# Altium schematic symbol library PBL - Resistors.SCHLIB: 127 symbols (part 1 of 2)
Pins are listed as number, name and electrical type; pins without a type are passive.

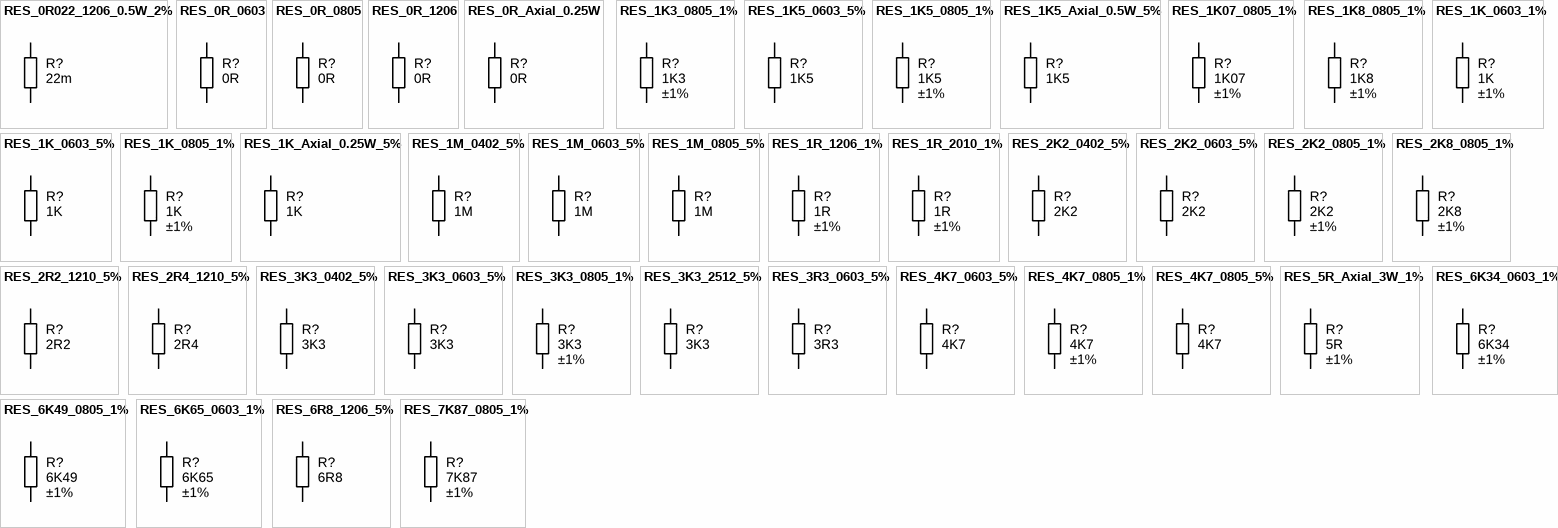
[diagram p0: symbols RES_0R022_1206_0.5W_2% to RES_7K87_0805_1%]

## RES_0R022_1206_0.5W_2%
designator R?, comment value 22m  (hidden comment: Thick Film)
Resistor SMD chip 22 milliohm 0.5W 2% 1206; Manufacturer 1: Susumu Co Ltd; Manufacturer Part Number 1: RL1632T-R022-G; Ratings: 1/2W; Tolerance: ±2%; Package / Case: 1206 (3216 metric); Supplier 1: Digi-Key; Supplier Part Number 1: RL16T.022GCT-ND
footprint RESC3216N (Chip Resistor, Body 3.2x1.6mm, 1206, IPC Medium Density)
pins: 1, 2

## RES_0R_0603
designator R?, comment value 0R  (hidden comment: Thick Film)
Resistor SMD chip 0.0 Ohm 0.1W 0603; Manufacturer 1: Vishay/Dale; Manufacturer Part Number 1: CRCW06030000Z0EA; Tolerance: ±5%; Ratings: 1/10W; Package / Case: 0603 (1608metric); Supplier 1: Digi-Key; Supplier Part Number 1: 541-0.0GCT-ND
footprint RESC1608N_ZERO (Chip Resistor, Body 1.6x0.8mm, 0603, IPC Medium Density)
pins: 1, 2

## RES_0R_0805
designator R?, comment value 0R  (hidden comment: Thick Film)
Resistor SMD chip 0.0 Ohm 0.125W 0805; Manufacturer 1: Rohm Semiconductor; Manufacturer Part Number 1: MCR10EZPJ000; Tolerance: ±5%; Ratings: 1/8W; Package / Case: 0805 (2012 metric)
footprint RESC2012N_ZERO (Chip Resistor, Body 2.0x1.2mm, 0805, IPC Medium Density)
pins: 1, 2

## RES_0R_1206
designator R?, comment value 0R  (hidden comment: Thick Film)
Resistor SMD chip 0.0 Ohm 0.25W 1206; Manufacturer 1: Vishay/Dale; Manufacturer Part Number 1: CRCW12060000Z0EA; Tolerance: ±5%; Ratings: 1/4W; Package / Case: 1206 (3216 metric); Supplier 1: Digi-Key; Supplier Part Number 1: 541-0.0ECT-ND
footprint RESC3216N_ZERO (Chip Resistor, Body 3.2x1.6mm, 1206, IPC Medium Density)
pins: 1, 2

## RES_0R_Axial_0.25W
designator R?, comment value 0R  (hidden comment: Carbon Film)
Resistor THD 0.0 Ohm 0.25W Jumper; Manufacturer 1: Yageo; Manufacturer Part Number 1: ZOR-25-R; Ratings: 1/4W; Tolerance: Jumper; Package / Case: 2.30x6.30mm DxL; Supplier 1: Digi-Key; Supplier Part Number 1: 0.0QTR-ND; Supplier 2: Mouser; Supplier Part Number 2: 603-ZOR-25-R-520R
footprint RESTH_0.0R_AXIAL-0.6 (Axial Resistor 0 Ohm, Thru-Hole; 2 Leads; 0.6 in Pin Spacing)
pins: 1, 2

## RES_1K3_0805_1%
designator R?, comment value 1K3  Tolerance: ±1%  (hidden comment: Thick Film)
Resistor SMD chip 1.3k Ohm 0.125W 1% 0805; Manufacturer 1: Vishay/Dale; Manufacturer Part Number 1: CRCW08051K30FKEA; Ratings: 1/8W; Package / Case: 0805 (2012 metric); Supplier 1: Digi-Key; Supplier Part Number 1: 541-1.30KCCT-ND
footprint RESC2012N (Chip Resistor, Body 2.0x1.2mm, 0805, IPC Medium Density)
pins: 1, 2

## RES_1K5_0603_5%
designator R?, comment value 1K5  (hidden comment: Thick Film)
Resistor SMD chip 1.5k Ohm 0.1W 5% 0603; Manufacturer 1: Yageo; Manufacturer Part Number 1: RC0603JR-071K5L; Ratings: 1/10 W; Package / Case: 0603 (1608 metric); Tolerance: ±5%; Material: thick film; Supplier 1: Digi-Key; Supplier Part Number 1: 311-1.5KGRCT-ND
footprint RESC1608N (Chip Resistor, Body 1.6x0.8mm, 0603, IPC Medium Density)
pins: 1, 2

## RES_1K5_0805_1%
designator R?, comment value 1K5  Tolerance: ±1%  (hidden comment: Thick Film)
Resistor SMD chip 1.5k Ohm 0.125W 1% 0805; Manufacturer 1: Vishay/Dale; Manufacturer Part Number 1: CRCW08051K50FKEA; Ratings: 1/8W; Package / Case: 0805 (2012 metric); Supplier 1: Digi-Key; Supplier Part Number 1: 541-1.50KCCT-ND
footprint RESC2012N (Chip Resistor, Body 2.0x1.2mm, IPC Medium Density)
pins: 1, 2

## RES_1K5_Axial_0.5W_5%
designator R?, comment value 1K5  (hidden comment: Carbon Film)
Resistor THD Axial 1.5k Ohm 0.5W 5% Carbon Film; Manufacturer 1: Yageo; Manufacturer Part Number 1: CFR-50JB-1K5; Ratings: 1/2W; Tolerance: ±5%; Package / Case: Axial; Supplier 1: Digi-Key; Supplier Part Number 1: 1.5KH-ND
footprint RESTH_AXIAL-0.4
pins: 1, 2

## RES_1K07_0805_1%
designator R?, comment value 1K07  Tolerance: ±1%  (hidden comment: Thick Film)
Resistor SMD chip 1.07K Ohm 0.125W 1% 0805; Manufacturer 1: Panasonic Electronic Components; Manufacturer Part Number 1: ERJ-6ENF1071V; Ratings: 1/8W; Package / Case: 0805 (2012 Metric); Supplier 1: Digi-Key; Size / Dimension: 0.079" L x 0.049" W (2.00mm x 1.25mm); Supplier Part Number 1: P1.07KCCT-ND
footprint RESC2012N (Chip Resistor, Body 2.0x1.2mm, 0805, IPC Medium Density)
pins: 1, 2

## RES_1K8_0805_1%
designator R?, comment value 1K8  Tolerance: ±1%  (hidden comment: Thick Film)
Resistor SMD chip 1.8k Ohm 0.125W 1% 0805; Manufacturer 1: Vishay/Dale; Manufacturer Part Number 1: CRCW08051K80FKEA; Ratings: 1/8W; Package / Case: 0805 (2012 metric); Supplier 1: Digi-Key; Supplier Part Number 1: 541-1.80KCCT-ND
footprint RESC2012N (Chip Resistor, Body 2.0x1.2mm, IPC Medium Density)
pins: 1, 2

## RES_1K_0603_1%
designator R?, comment value 1K  Tolerance: ±1%  (hidden comment: Thick Film)
Resistor SMD chip 1k Ohm 0.1W 1% 0603; Manufacturer 1: Yageo; Manufacturer Part Number 1: RC0603FR-071KL; Ratings: 1/10W; Package / Case: 0603 (1608 Metric); Supplier 1: Digi-Key; Supplier Part Number 1: 311-1.00KHRCT-ND
footprint RESC1608N (Chip Resistor, Body 1.6x0.8mm, 0603, IPC Medium Density)
pins: 1, 2

## RES_1K_0603_5%
designator R?, comment value 1K  (hidden comment: Thick Film)
Resistor SMD chip 1k Ohm 0.1W 5% 0603; Manufacturer 1: Yageo; Manufacturer Part Number 1: RC0603JR-071KL; Ratings: 1/10 W; Package / Case: 0603 (1608 metric); Tolerance: ±5%; Material: Thick Film; Supplier 1: Digi-Key; Supplier Part Number 1: 311-1.0KGRCT-ND
footprint RESC1608N (Chip Resistor, Body 1.6x0.8mm, 0603, IPC Medium Density)
pins: 1, 2

## RES_1K_0805_1%
designator R?, comment value 1K  Tolerance: ±1%  (hidden comment: Thick Film)
Resistor SMD chip 1k Ohm 0.125W 1% 0805; Manufacturer 1: Vishay/Dale; Manufacturer Part Number 1: CRCW08051K00FKEA; Ratings: 1/8W; Supplier 1: Digi-Key; Supplier Part Number 1: 541-1.00KCCT-ND; Package / Case: 0805 (2012 metric)
footprint RESC2012N (Chip Resistor, Body 2.0x1.2mm, 0805, IPC Medium Density)
pins: 1, 2

## RES_1K_Axial_0.25W_5%
designator R?, comment value 1K  (hidden comment: Carbon Film)
Resistor THD Axial 1k Ohm 0.25W 5% Carbon Film; Manufacturer 1: Yageo; Manufacturer Part Number 1: CFR-25JB-1K0; Ratings: 1/4W; Tolerance: ±5%; Package / Case: Axial; Supplier 1: Digi-Key; Supplier Part Number 1: 1.0KQBK-ND
footprint RESTH_AXIAL-0.4
pins: 1, 2

## RES_1M_0402_5%
designator R?, comment value 1M  (hidden comment: Thick Film)
Resistor SMD chip 1M Ohm 0.063W 5% 0402; Manufacturer 1: Vishay Dale; Manufacturer Part Number 1: CRCW04021M00JNED; Ratings: 1/16 W; Power Rating: 0.063W, 1/16W; Package / Case: 0402 (1005 Metric); Tolerance: ±5%; Material: Thick Film; Manufacturer 2: Yageo; Manufacturer Part Number 2: RC0402JR-071ML; Supplier 1: Digi-Key; Supplier Part Number 1: 541-1.0MJCT-ND; ComponentLink1URL: http://www.vishay.com/doc?20035; ComponentLink1Description: http://www.vishay.com/doc?20035; Supplier 2: Digi-Key; Supplier Part Number 2: 311-1.0MJRCT-ND; ComponentLink2URL: http://www.yageo.com/documents/recent/PYu-RC0402_51_RoHS_L_6.pdf; ComponentLink2Description: http://www.yageo.com/documents/recent/PYu-RC0402_51_RoHS_L_6.pdf
footprint RESC1005N (Chip Resistor, Body 1.0x0.5mm, EIA 0402, IPC Medium Density)
pins: 1, 2

## RES_1M_0603_5%
designator R?, comment value 1M  (hidden comment: Thick Film)
Resistor SMD chip 1M Ohm 0.1W 5% 0603; Manufacturer 1: Royal Ohm; Manufacturer Part Number 1: 0603WAJ0105; Ratings: 1/10 W; Package / Case: 0603 (1608 metric); Tolerance: ±5%; Material: Thick Film
footprint RESC1608N (Chip Resistor, Body 1.6x0.8mm, 0603, IPC Medium Density)
pins: 1, 2

## RES_1M_0805_5%
designator R?, comment value 1M  (hidden comment: Thick Film)
Resistor SMD chip 1M Ohm 0.125W 5% 0805; Manufacturer 1: Vishay/Dale; Manufacturer Part Number 1: CRCW08051M00JNEA; Ratings: 1/8W; Tolerance: ±5%; Package / Case: 0805 (2012 metric); Supplier 1: Digi-Key; Supplier Part Number 1: 541-1.0MACT-ND
footprint RESC2012N (Chip Resistor, Body 2.0x1.2mm, 0805, IPC Medium Density)
pins: 1, 2

## RES_1R_1206_1%
designator R?, comment value 1R  Tolerance: ±1%  (hidden comment: Thick Film)
Resistor SMD chip 1 Ohm 250mW 1% 1206; Manufacturer 1: KOA Speer; Manufacturer Part Number 1: RK73H2BTTD1R00F; Ratings: 1/4W; 200V; Parameter Name: 100 PPM / C; Package / Case: 1206 (3216 metric); Material: Thick Film; Supplier 1: Mouser; Supplier Part Number 1: 660-RK73H2BTTD1R00F
footprint RESC3216N (Chip Resistor, Body 3.2x1.6mm, 1206, IPC Medium Density)
pins: 1, 2

## RES_1R_2010_1%
designator R?, comment value 1R  Tolerance: ±1%  (hidden comment: Thick Film)
Resistor SMD chip 1 Ohm 1W 1% 2010; Manufacturer 1: Vishay/Dale; Manufacturer Part Number 1: CRCW20101R00FKEFHP; Ratings: 1W; 400V; Package / Case: 2010 (5025 metric); Material: Thick Film; Supplier 1: Digi-Key; Supplier Part Number 1: 541-1.00PCT-ND
footprint RESC5025N (Chip Resistor, Body 5.0x2.5mm, 2010, IPC Medium Density)
pins: 1, 2

## RES_2K2_0402_5%
designator R?, comment value 2K2  (hidden comment: Thick Film)
Resistor SMD chip 2.2k Ohm 0.063W 5% 0402; Manufacturer 1: Vishay Dale; Manufacturer Part Number 1: CRCW04022K20JNED; Ratings: 1/16 W; Package / Case: 0402 (1005 metric); Tolerance: ±5%; Material: Thick Film; Manufacturer 2: Yageo; Manufacturer Part Number 2: RC0402JR-072K2L; Supplier 1: Digi-Key; Supplier Part Number 1: 541-2.2KJCT-ND; ComponentLink1URL: http://www.vishay.com/doc?20035; ComponentLink1Description: http://www.vishay.com/doc?20035; Supplier 2: Digi-Key; Supplier Part Number 2: 311-2.2KJRCT-ND; ComponentLink2URL: http://www.yageo.com/documents/recent/PYu-RC0402_51_RoHS_L_6.pdf; ComponentLink2Description: http://www.yageo.com/documents/recent/PYu-RC0402_51_RoHS_L_6.pdf
footprint RESC1005N (Chip Resistor, Body 1.0x0.5mm, EIA 0402, IPC Medium Density)
pins: 1, 2

## RES_2K2_0603_5%
designator R?, comment value 2K2  (hidden comment: Thick Film)
Resistor SMD chip 2.2k Ohm 0.1W 5% 0603; Manufacturer 1: Yageo; Manufacturer Part Number 1: RC0603JR-072K2L; Ratings: 1/10 W; Package / Case: 0603 (1608 metric); Tolerance: ±5%; Material: Thick Film; Supplier 1: Digi-Key; Supplier Part Number 1: 311-2.2KGRCT-ND
footprint RESC1608N (Chip Resistor, Body 1.6x0.8mm, IPC Medium Density)
pins: 1, 2

## RES_2K2_0805_1%
designator R?, comment value 2K2  Tolerance: ±1%  (hidden comment: Thick Film)
Resistor SMD chip 2.2k Ohm 0.125W 1% 0805; Manufacturer 1: Vishay/Dale; Manufacturer Part Number 1: CRCW08052K20FKEA; Ratings: 1/8W; Supplier 1: Digi-Key; Supplier Part Number 1: 541-2.20KCCT-ND; Package / Case: 0805 (2012 metric)
footprint RESC2012N (Chip Resistor, Body 2.0x1.2mm, IPC Medium Density)
pins: 1, 2

## RES_2K8_0805_1%
designator R?, comment value 2K8  Tolerance: ±1%  (hidden comment: Thick Film)
Resistor SMD chip 2.8k Ohm 0.125W 1% 0805; Manufacturer 1: Vishay/Dale; Manufacturer Part Number 1: CRCW08052K80FKEA; Ratings: 1/8W; Package / Case: 0805 (2012 metric); Supplier 1: Digi-Key; Supplier Part Number 1: 541-2.80KCCT-ND
footprint RESC2012N (Chip Resistor, Body 2.0x1.2mm, IPC Medium Density)
pins: 1, 2

## RES_2R2_1210_5%
designator R?, comment value 2R2  (hidden comment: Thick Film)
Resistor SMD chip 2.2 Ohm 0.5W 5% 1210; Manufacturer 1: Panasonic - ECG; Manufacturer Part Number 1: ERJ-14YJ2R2U; Ratings: 1/2 W; Package / Case: 1210 (3225 metric); Tolerance: ±5%; Supplier 1: Digi-Key; Supplier Part Number 1: P2.2VCT-ND; ComponentLink1URL: http://industrial.panasonic.com/www-cgi/jvcr13pz.cgi?E+PZ+3+AOA0001+ERJ14YJ2R2U+7+WW; ComponentLink1Description: http://industrial.panasonic.com/www-cgi/jvcr13pz.cgi?E+PZ+3+AOA0001+ERJ14YJ2R2U+7+WW
footprint RESC3225N (Chip Resistor, Body 3.2x2.5mm, 1210, IPC Medium Density)
pins: 1, 2

## RES_2R4_1210_5%
designator R?, comment value 2R4  (hidden comment: Thick Film)
Resistor SMD chip 2.4 Ohm 0.5W 5% 1210; Manufacturer 1: Panasonic - ECG; Manufacturer Part Number 1: ERJ-14YJ2R4U; Ratings: 1/2 W; Package / Case: 1210 (3225 metric); Tolerance: ±5%; ComponentLink1URL: http://industrial.panasonic.com/www-cgi/jvcr13pz.cgi?E+PZ+3+AOA0001+ERJ14YJ2R2U+7+WW; ComponentLink1Description: http://industrial.panasonic.com/www-cgi/jvcr13pz.cgi?E+PZ+3+AOA0001+ERJ14YJ2R2U+7+WW; Supplier 1: Digi-Key; Supplier Part Number 1: P2.4VCT-ND
footprint RESC3225N (Chip Resistor, Body 3.2x2.5mm, 1210, IPC Medium Density)
pins: 1, 2

## RES_3K3_0402_5%
designator R?, comment value 3K3  (hidden comment: Thick Film)
Resistor SMD chip 3.3k Ohm 0.063W 5% 0402; Manufacturer 1: Yageo; Manufacturer Part Number 1: RC0402JR-073K3L; Ratings: 1/16 W; Package / Case: 0402 (1005 metric); Tolerance: ±5%; Material: Thick Film; Supplier 1: Digi-Key; Supplier Part Number 1: 311-3.3KJRCT-ND; ComponentLink1URL: http://www.yageo.com/documents/recent/PYu-RC0402_51_RoHS_L_6.pdf; ComponentLink1Description: http://www.yageo.com/documents/recent/PYu-RC0402_51_RoHS_L_6.pdf
footprint RESC1005N (Chip Resistor, Body 1.0x0.5mm, EIA 0402, IPC Medium Density)
pins: 1, 2

## RES_3K3_0603_5%
designator R?, comment value 3K3  (hidden comment: Thick Film)
Resistor SMD chip 3.3k Ohm 0.1W 5% 0603; Manufacturer 1: Yageo; Manufacturer Part Number 1: RC0603JR-073K3L; Ratings: 1/10 W; Package / Case: 0603 (1608 metric); Tolerance: ±5%; Material: thick film; Supplier 1: Digi-Key; Supplier Part Number 1: 311-3.3KGRTR-ND
footprint RESC1608N (Chip Resistor, Body 1.6x0.8mm, IPC Medium Density)
pins: 1, 2

## RES_3K3_0805_1%
designator R?, comment value 3K3  Tolerance: ±1%  (hidden comment: Thick Film)
Resistor SMD chip 3.3k Ohm 0.125W 1% 0805; Manufacturer 1: Vishay/Dale; Manufacturer Part Number 1: CRCW08053K30FKEA; Ratings: 1/8W; Package / Case: 0805 (2012 metric); Supplier 1: Digi-Key; Supplier Part Number 1: 541-3.30KCCT-ND
footprint RESC2012N (Chip Resistor, Body 2.0x1.2mm, IPC Medium Density)
pins: 1, 2

## RES_3K3_2512_5%
designator R?, comment value 3K3  (hidden comment: Thick Film)
Resistor SMD chip 3.3k Ohm 1W 5% 2512; Manufacturer 1: Vishay/Dale; Manufacturer Part Number 1: CRCW25123K30JNEG; Tolerance: ±5%; Ratings: 1W; Material: Thick Film; Supplier 1: Digi-Key; Supplier Part Number 1: 541-3.3KXCT-ND; Package / Case: 2512 (6332 metric)
footprint RESC6332N (Chip Resistor, Body 6.3x3.2mm, 2512, IPC Medium Density)
pins: 1, 2

## RES_3R3_0603_5%
designator R?, comment value 3R3  (hidden comment: Thick Film)
Resistor SMD chip 3.3 Ohm 0.1W 5% 0603; Manufacturer 1: Yageo; Manufacturer Part Number 1: RC0603JR-073R3L; Ratings: 1/10 W; Package / Case: 0603 (1608 metric); Tolerance: ±5%; ComponentLink1URL: http://www.yageo.com/documents/recent/PYu-RC0603_51_RoHS_L_4.pdf; ComponentLink1Description: http://www.yageo.com/documents/recent/PYu-RC0603_51_RoHS_L_4.pdf; Supplier 1: Digi-Key; Supplier Part Number 1: 311-3.3GRCT-ND
footprint RESC1608N (Chip Resistor, Body 1.6x0.8mm, 0603, IPC Medium Density)
pins: 1, 2

## RES_4K7_0603_5%
designator R?, comment value 4K7  (hidden comment: Thick Film)
Resistor SMD chip 4.7k Ohm 0.1W 5% 0603; Manufacturer 1: Vishay/Dale; Manufacturer Part Number 1: CRCW06034K70JNEA; Ratings: 1/10 W; Package / Case: 0603 (1608 metric); Tolerance: ±5%; Material: Thick Film; Supplier 1: Digi-Key; Supplier Part Number 1: 541-4.7KGCT-ND
footprint RESC1608N (Chip Resistor, Body 1.6x0.8mm, IPC Medium Density)
pins: 1, 2

## RES_4K7_0805_1%
designator R?, comment value 4K7  Tolerance: ±1%  (hidden comment: Thick Film)
Resistor SMD chip 4.7k Ohm 0.125W 1% 0805; Manufacturer 1: Vishay/Dale; Manufacturer Part Number 1: CRCW08054K70FKEA; Ratings: 1/8W; Package / Case: 0805 (2012 metric); Supplier 1: Digi-Key; Supplier Part Number 1: 541-4.70KCCT-ND
footprint RESC2012N (Chip Resistor, Body 2.0x1.2mm, IPC Medium Density)
pins: 1, 2

## RES_4K7_0805_5%
designator R?, comment value 4K7  (hidden comment: Thick Film)
Resistor SMD chip 4.7k Ohm 0.125W 5% 0805; Manufacturer 1: Yageo; Manufacturer Part Number 1: RC0805JR-074K7L; Ratings: 1/8 W; Package / Case: 0805 (2012 metric); Tolerance: ±5%; Material: Thick Film; Supplier 1: Digi-Key; Supplier Part Number 1: 311-4.7KARCT-ND
footprint RESC2012N (Chip Resistor, Body 2.0x1.2mm, IPC Medium Density)
pins: 1, 2

## RES_5R_Axial_3W_1%
designator R?, comment value 5R  Tolerance: ±1%  (hidden comment: Wirewound)
Resistor THD 5 Ohm 3W 1% Wirewound; Manufacturer 1: Vishay/Dale; Manufacturer Part Number 1: RS02B5R000FE70; Package / Case: 4.75x15.80mm DxL; Ratings: 3W; Material: Wirewound; Size / Dimension: 0.187" Dia x 0.622" L (4.75mm x 15.80mm); ComponentLink1URL: http://www.vishay.com/doc?30204; ComponentLink1Description: http://www.vishay.com/doc?30204; Supplier 1: Digi-Key; Supplier Part Number 1: RSB-5.0RCT-ND
footprint RESTH_AXIAL_RS02B (Axial Resistor Thru-Hole; 2 Leads)
pins: 1, 2

## RES_6K34_0603_1%
designator R?, comment value 6K34  Tolerance: ±1%  (hidden comment: Thick Film)
Resistor SMD chip 6.34k Ohm 0.1W 1% 0603; Manufacturer 1: Yageo; Manufacturer Part Number 1: RC0603FR-076K34L; Ratings: 1/10W; Package / Case: 0603 (1608 Metric); Supplier 1: Digi-Key; Supplier Part Number 1: 311-6.34KHRCT-ND
footprint RESC1608N (Chip Resistor, Body 1.6x0.8mm, 0603, IPC Medium Density)
pins: 1, 2

## RES_6K49_0805_1%
designator R?, comment value 6K49  Tolerance: ±1%  (hidden comment: Thick Film)
Resistor SMD chip 6.49k Ohm 0.125W 1% 0805; Manufacturer: Vishay/Dale; Manufacturer Part Number: CRCW08056K49FKEA; Ratings: 1/8W; Package / Case: 0805 (2012 metric); Supplier 1: Digi-Key; Supplier Part Number 1: 541-6.49KCCT-ND
footprint RESC2012N (Chip Resistor, Body 2.0x1.2mm, 0805, IPC Medium Density)
pins: 1, 2

## RES_6K65_0603_1%
designator R?, comment value 6K65  Tolerance: ±1%  (hidden comment: Thick Film)
Resistor SMD chip 6.65k Ohm 0.1W 1% 0603; Manufacturer 1: Yageo; Manufacturer Part Number 1: RC0603FR-076K65L; Ratings: 1/10W; Package / Case: 0603 (1608 Metric); Supplier 1: Digi-Key; Supplier Part Number 1: 311-6.65KHRCT-ND; ComponentLink1URL: http://www.yageo.com/documents/recent/PYu-RC0603_51_RoHS_L_4.pdf; ComponentLink1Description: http://www.yageo.com/documents/recent/PYu-RC0603_51_RoHS_L_4.pdf
footprint RESC1608N (Chip Resistor, Body 1.6x0.8mm, 0603, IPC Medium Density)
pins: 1, 2

## RES_6R8_1206_5%
designator R?, comment value 6R8  (hidden comment: Thick Film)
Resistor SMD chip 6.8 Ohm 0.25W 5% 1206; Manufacturer 1: Vishay/Dale; Manufacturer Part Number 1: CRCW12066R80JNEA; Ratings: 1/4W; Tolerance: ±5%; Package / Case: 1206 (3216 metric); Supplier 1: Digi-Key; Supplier Part Number 1: 541-6.8ECT-ND
footprint RESC3216N (Chip Resistor, Body 3.2x1.6mm, IPC Medium Density)
pins: 1, 2

## RES_7K87_0805_1%
designator R?, comment value 7K87  Tolerance: ±1%  (hidden comment: Thick Film)
Resistor SMD chip 7.87k Ohm 0.125W 1% 0805; Manufacturer 1: Vishay/Dale; Manufacturer Part Number 1: CRCW08057K87FKEA; Ratings: 1/8W; Package / Case: 0805 (2012 metric); Supplier 1: Digi-Key; Supplier Part Number 1: 541-7.87KCCT-ND
footprint RESC2012N (Chip Resistor, Body 2.0x1.2mm, IPC Medium Density)
pins: 1, 2

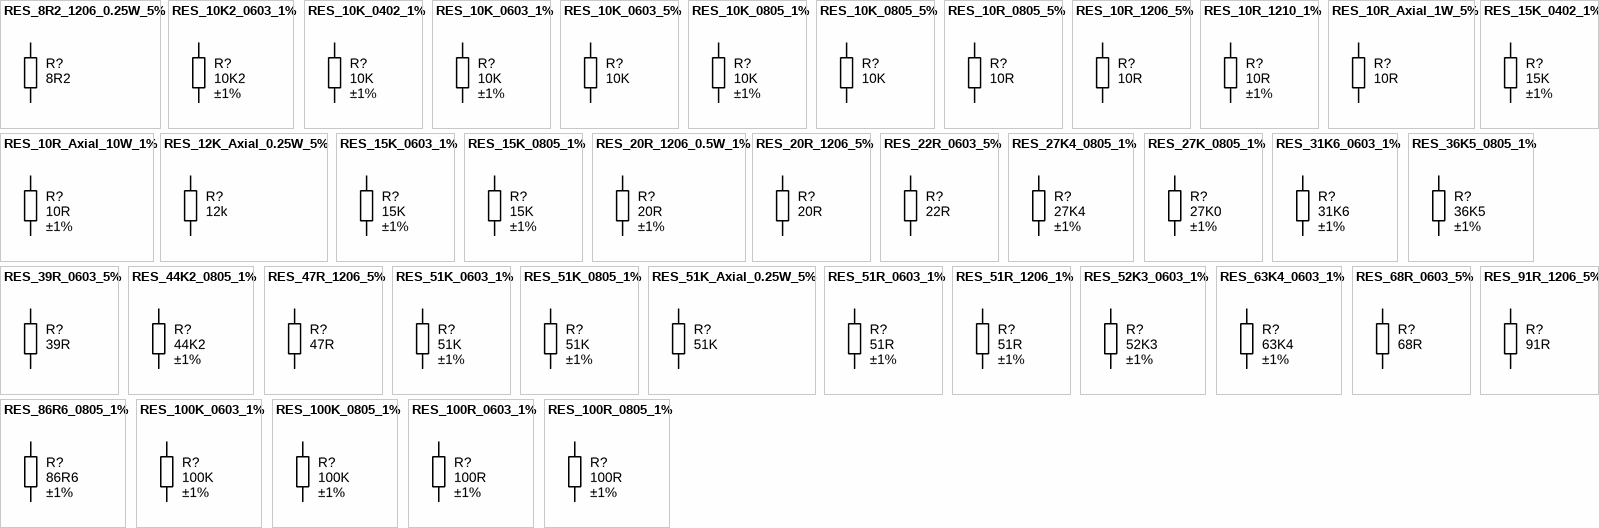
[diagram p1: symbols RES_8R2_1206_0.25W_5% to RES_100R_0805_1%]

## RES_8R2_1206_0.25W_5%
designator R?, comment value 8R2  (hidden comment: Thick Film)
Resistor SMD chip 8.2 Ohm 0.25W 5% 1206; Manufacturer 1: Royal Ohm; Manufacturer Part Number 1: 1206WAJ08R2; Ratings: 1/4 W; Package / Case: 1206 (3216 metric); Tolerance: ±5%
footprint RESC3216N (Chip Resistor, Body 3.2x1.6mm, IPC Medium Density)
pins: 1, 2

## RES_10K2_0603_1%
designator R?, comment value 10K2  Tolerance: ±1%  (hidden comment: Thick Film)
Resistor SMD chip 10.2K Ohm 0.1W 1% 0603; Manufacturer 1: Yageo; Manufacturer Part Number 1: RC0603FR-0710K2L; Ratings: 1/10W; Parameter Name: ±100ppm/°C; Package / Case: 0603 (1608 Metric); ComponentLink1URL: http://www.yageo.com/documents/recent/PYu-RC0603_51_RoHS_L_4.pdf; ComponentLink1Description: http://www.yageo.com/documents/recent/PYu-RC0603_51_RoHS_L_4.pdf; Supplier 1: Digi-Key; Supplier Part Number 1: 311-10.2KHRCT-ND
footprint RESC1608N (Chip Resistor, Body 1.6x0.8mm, 0603, IPC Medium Density)
pins: 1, 2

## RES_10K_0402_1%
designator R?, comment value 10K  Tolerance: ±1%  (hidden comment: Thick Film)
Resistor SMD chip 10k Ohm 0.063W 1% 0402; Manufacturer 1: Vishay Dale; Manufacturer Part Number 1: CRCW040210K0FKED; Ratings: 1/16 W; Package / Case: 0402 (1005 Metric); Manufacturer 2: Yageo; Manufacturer Part Number 2: RC0402FR-0710KL; Supplier 1: Digi-Key; Supplier Part Number 1: 541-10.0KLCT-ND; ComponentLink1URL: http://www.vishay.com/doc?20035; ComponentLink1Description: http://www.vishay.com/doc?20035; Supplier 2: Digi-Key; Supplier Part Number 2: 311-10.0KLRCT-ND; ComponentLink2URL: http://www.yageo.com/documents/recent/PYu-RC0402_51_RoHS_L_6.pdf; ComponentLink2Description: http://www.yageo.com/documents/recent/PYu-RC0402_51_RoHS_L_6.pdf
footprint RESC1005N (Chip Resistor, Body 1.0x0.5mm, EIA 0402, IPC Medium Density)
pins: 1, 2

## RES_10K_0603_1%
designator R?, comment value 10K  Tolerance: ±1%  (hidden comment: Thick Film)
Resistor SMD chip 10k Ohm 0.1W 1% 0603; Manufacturer 1: Yageo; Manufacturer Part Number 1: RC0603FR-0710KL; Ratings: 1/10W; Package / Case: 0603 (1608 Metric); Supplier 1: Digi-Key; Supplier Part Number 1: 311-10.0KHRCT-ND
footprint RESC1608N (Chip Resistor, Body 1.6x0.8mm, 0603, IPC Medium Density)
pins: 1, 2

## RES_10K_0603_5%
designator R?, comment value 10K  (hidden comment: Thick Film)
Resistor SMD chip 10k Ohm 0.1W 5% 0603; Manufacturer 1: Yageo; Manufacturer Part Number 1: RC0603JR-0710KL; Ratings: 1/10 W; Package / Case: 0603 (1608 metric); Tolerance: ±5%; Supplier 1: Digi-Key; Supplier Part Number 1: 311-10KGRCT-ND
footprint RESC1608N (Chip Resistor, Body 1.6x0.8mm, IPC Medium Density)
pins: 1, 2

## RES_10K_0805_1%
designator R?, comment value 10K  Tolerance: ±1%  (hidden comment: Thick Film)
Resistor SMD chip 10k Ohm 0.125W 1% 0805; Manufacturer 1: Vishay/Dale; Manufacturer Part Number 1: CRCW080510K0FKEA; Ratings: 1/8W; Package / Case: 0805 (2012 metric); Supplier 1: Digi-Key; Supplier Part Number 1: 541-10.0KCCT-ND; Material: Thick Film
footprint RESC2012N (Chip Resistor, Body 2.0x1.2mm, 0805, IPC Medium Density)
pins: 1, 2

## RES_10K_0805_5%
designator R?, comment value 10K  (hidden comment: Thick Film)
Resistor SMD chip 10k Ohm 0.125W 5% 0805; Manufacturer 1: Yageo; Manufacturer Part Number 1: RC0805JR-0710KL; Ratings: 1/8 W; Package / Case: 0805 (2012 metric); Tolerance: ±5%; Material: Thick Film; Supplier 1: Digi-Key; Supplier Part Number 1: 311-10KARCT-ND
footprint RESC2012N (Chip Resistor, Body 2.0x1.2mm, IPC Medium Density)
pins: 1, 2

## RES_10R_0805_5%
designator R?, comment value 10R  (hidden comment: Thick Film)
Resistor SMD chip 10 Ohm 0.125W 5% 0805; Manufacturer 1: Vishay/Dale; Manufacturer Part Number 1: CRCW080510R0JNEA; Ratings: 1/8W; Tolerance: ±5%; Package / Case: 0805 (2012 metric); Supplier 1: Digi-Key; Supplier Part Number 1: 541-10ATR-ND
footprint RESC2012N (Chip Resistor, Body 2.0x1.2mm, 0805, IPC Medium Density)
pins: 1, 2

## RES_10R_1206_5%
designator R?, comment value 10R  (hidden comment: Thick Film)
Resistor SMD chip 10 Ohm 0.25W 5% 1206; Manufacturer 1: Yageo; Manufacturer Part Number 1: RC1206JR-0710RL; Ratings: 1/4W; Tolerance: ±5%; Package / Case: 1206 (3216 metric); Supplier 1: Digi-Key; Supplier Part Number 1: 311-10ERCT-ND
footprint RESC3216N (Chip Resistor, Body 3.2x1.6mm, 1206, IPC Medium Density)
pins: 1, 2

## RES_10R_1210_1%
designator R?, comment value 10R  Tolerance: ±1%  (hidden comment: Thick Film)
Resistor SMD chip 10 Ohm 0.5W 1% 1210; Manufacturer 1: Panasonic - ECG; Manufacturer Part Number 1: ERJ-14NF10R0U; Ratings: 1/2W; Package / Case: 1210 (3225 Metric); Supplier 1: Digi-Key; Supplier Part Number 1: P10.0AACT-ND; ComponentLink1URL: http://industrial.panasonic.com/www-cgi/jvcr13pz.cgi?E+PZ+3+AOA0002+ERJ14NF10R0U+7+WW; ComponentLink1Description: http://industrial.panasonic.com/www-cgi/jvcr13pz.cgi?E+PZ+3+AOA0002+ERJ14NF10R0U+7+WW
footprint RESC3225N (Chip Resistor, Body 3.2x2.5mm, 1210, IPC Medium Density)
pins: 1, 2

## RES_10R_Axial_1W_5%
designator R?, comment value 10R  (hidden comment: Metal Film)
Resistor THD 10 Ohm 1W 5% Metal Film; Manufacturer 1: Vishay/BC Components; Manufacturer Part Number 1: PR01000101009JR500; Tolerance: ±5%; Package / Case: 2.5x8.0mm DxL; Ratings: 1W; Supplier 1: Digi-Key; Supplier Part Number 1: PPC10W-1CT-ND
footprint AXIAL-0.6 (Axial Device, Thru-Hole; 2 Leads; 0.6 in Pin Spacing)
pins: 1, 2

## RES_10R_Axial_10W_1%
designator R?, comment value 10R  Tolerance: ±1%  (hidden comment: Wirewound)
Resistor THD 10 Ohm 10W 1% Wirewound; Manufacturer 1: Vishay/Dale; Manufacturer Part Number 1: RS01010R00FE73; Package / Case: 9.53x47.50mm DxL; Ratings: 10W; Supplier 1: Digi-Key; Supplier Part Number 1: RSD-10RCT-ND; Material: Wirewound; Size / Dimension: 0.375" Dia x 1.870" L (9.53mm x 47.50mm); ComponentLink1URL: http://www.vishay.com/doc?30204; ComponentLink1Description: http://www.vishay.com/doc?30204
footprint RESTH_AXIAL_RS010 (Axial Resistor Thru-Hole; 2 Leads)
pins: 1, 2

## RES_12K_Axial_0.25W_5%
designator R?, comment value 12k  (hidden comment: Carbon Film)
Resistor THD Axial 12k Ohm 0.25W 5% Carbon Film; Manufacturer 1: Yageo; Manufacturer Part Number 1: CFR-25JB-12K; Ratings: 1/4W; Tolerance: ±5%; Package / Case: Axial; Supplier 1: Digi-Key; Supplier Part Number 1: 12KQBK-ND
footprint RESTH_AXIAL-0.4
pins: 1, 2

## RES_15K_0402_1%
designator R?, comment value 15K  Tolerance: ±1%  (hidden comment: Thick Film)
Resistor SMD chip 15k Ohm 0.063W 1% 0402; Manufacturer 1: Vishay Dale; Manufacturer Part Number 1: CRCW040215K0FKED; Ratings: 1/16 W; Package / Case: 0402 (1005 Metric); Manufacturer 2: Yageo; Manufacturer Part Number 2: RC0402FR-0715KL; Supplier 1: Digi-Key; Supplier Part Number 1: 541-15.0KLCT-ND; ComponentLink1URL: http://www.vishay.com/doc?20035; ComponentLink1Description: http://www.vishay.com/doc?20035; Supplier 2: Digi-Key; Supplier Part Number 2: 311-15.0KLRCT-ND; ComponentLink2URL: http://www.yageo.com/documents/recent/PYu-RC0402_51_RoHS_L_6.pdf; ComponentLink2Description: http://www.yageo.com/documents/recent/PYu-RC0402_51_RoHS_L_6.pdf
footprint RESC1005N (Chip Resistor, Body 1.0x0.5mm, EIA 0402, IPC Medium Density)
pins: 1, 2

## RES_15K_0603_1%
designator R?, comment value 15K  Tolerance: ±1%  (hidden comment: Thick Film)
Resistor SMD chip 15k Ohm 0.1W 1% 0603; Manufacturer 1: Vishay/Dale; Manufacturer Part Number 1: CRCW060315K0FKEA; Ratings: 1/10 W; Package / Case: 0603 (1608 metric); Material: Thick Film; Supplier 1: Digi-Key; Supplier Part Number 1: 541-15.0KHCT-ND
footprint RESC1608N (Chip Resistor, Body 1.6x0.8mm, 0603, IPC Medium Density)
pins: 1, 2

## RES_15K_0805_1%
designator R?, comment value 15K  Tolerance: ±1%  (hidden comment: Thick Film)
Resistor SMD chip 15k Ohm 0.125W 1% 0805; Manufacturer 1: Vishay/Dale; Manufacturer Part Number 1: CRCW080515K0FKEA; Ratings: 1/8W; Package / Case: 0805 (2012 metric); Supplier 1: Digi-Key; Supplier Part Number 1: 541-15.0KCCT-ND
footprint RESC2012N (Chip Resistor, Body 2.0x1.2mm, IPC Medium Density)
pins: 1, 2

## RES_20R_1206_0.5W_1%
designator R?, comment value 20R  Tolerance: ±1%  (hidden comment: Thick Film)
Resistor SMD chip 20 Ohm 0.5W 1% 1206; Manufacturer 1: Stackpole Electronics Inc; Manufacturer Part Number 1: RNCP1206FTD20R0; Ratings: 1/2W; Package / Case: 1206 (3216 Metric); Supplier 1: Digi-Key; Supplier Part Number 1: RNCP1206FTD20R0CT-ND; Features: Anti-Sulfur
footprint RESC3216N (Chip Resistor, Body 3.2x1.6mm, 1206, IPC Medium Density)
pins: 1, 2

## RES_20R_1206_5%
designator R?, comment value 20R  (hidden comment: Thick Film)
Resistor SMD chip 20 Ohm 0.25W 5% 1206; Manufacturer 1: Yageo; Manufacturer Part Number 1: RC1206JR-0720RL; Ratings: 1/4W; Package / Case: 1206 (3216 metric); Tolerance: ±5%; Supplier 1: Digi-Key; Supplier Part Number 1: 311-20ERCT-ND
footprint RESC3216N (Chip Resistor, Body 3.2x1.6mm, 1206, IPC Medium Density)
pins: 1, 2

## RES_22R_0603_5%
designator R?, comment value 22R  (hidden comment: Thick Film)
Resistor SMD chip 22 Ohm 0.1W 5% 0603; Manufacturer 1: Yageo; Manufacturer Part Number 1: RC0603JR-0722RL; Ratings: 1/10W; Tolerance: ±5%; Package / Case: 0603 (1608 metric); Case: 0603 (1608 metric); Supplier 1: Digi-Key; Supplier Part Number 1: 311-22GRCT-ND
footprint RESC1608N (Chip Resistor, Body 1.6x0.8mm, 0603, IPC Medium Density)
pins: 1, 2

## RES_27K4_0805_1%
designator R?, comment value 27K4  Tolerance: ±1%  (hidden comment: Thick Film)
Resistor SMD chip 27.4k Ohm 0.125W 1% 0805; Manufacturer 1: Vishay/Dale; Manufacturer Part Number 1: CRCW080527K4FKEA; Ratings: 1/8W; Package / Case: 0805 (2012 metric); Supplier 1: Digi-Key; Supplier Part Number 1: 541-27.4KCCT-ND
footprint RESC2012N (Chip Resistor, Body 2.0x1.2mm, 0805, IPC Medium Density)
pins: 1, 2

## RES_27K_0805_1%
designator R?, comment value 27K0  Tolerance: ±1%  (hidden comment: Thick Film)
Resistor SMD chip 27.0k Ohm 0.125W 1% 0805; Manufacturer 1: Vishay/Dale; Manufacturer Part Number 1: CRCW080527K0FKEA; Ratings: 1/8W; Package / Case: 0805 (2012 metric); Supplier 1: Digi-Key; Supplier Part Number 1: 541-27.0KCCT-ND
footprint RESC2012N (Chip Resistor, Body 2.0x1.2mm, IPC Medium Density)
pins: 1, 2

## RES_31K6_0603_1%
designator R?, comment value 31K6  Tolerance: ±1%  (hidden comment: Thick Film)
Resistor SMD chip 31.6k Ohm 0.1W 1% 0603; Manufacturer 1: Yageo; Manufacturer Part Number 1: RC0603FR-0731K6L; Ratings: 1/10W; Package / Case: 0603 (1608 Metric); Supplier 1: Digi-Key; Supplier Part Number 1: 311-31.6KHRCT-ND
footprint RESC1608N (Chip Resistor, Body 1.6x0.8mm, 0603, IPC Medium Density)
pins: 1, 2

## RES_36K5_0805_1%
designator R?, comment value 36K5  Tolerance: ±1%  (hidden comment: Thick Film)
Resistor SMD chip 36.5k Ohm 0.125W 1% 0805; Manufacturer 1: Vishay/Dale; Manufacturer Part Number 1: CRCW080536K5FKEA; Ratings: 1/8W; Package / Case: 0805 (2012 metric); Supplier 1: Digi-Key; Supplier Part Number 1: 541-36.5KCCT-ND
footprint RESC2012N (Chip Resistor, Body 2.0x1.2mm, 0805, IPC Medium Density)
pins: 1, 2

## RES_39R_0603_5%
designator R?, comment value 39R  (hidden comment: Thick Film)
Resistor SMD chip 39 Ohm 0.1W 5% 0603; Manufacturer 1: Vishay Dale; Manufacturer Part Number 1: CRCW060339R0JNEA; Ratings: 1/10 W; Package / Case: 0603 (1608 metric); Tolerance: ±5%; Manufacturer 2: Yageo; Manufacturer Part Number 2: RC0603JR-0739RL; Supplier 1: Digi-Key; Supplier Part Number 1: 541-39GCT-ND; ComponentLink1URL: http://www.vishay.com/doc?20035; ComponentLink1Description: http://www.vishay.com/doc?20035; Supplier 2: Digi-Key; Supplier Part Number 2: 311-39GRCT-ND; ComponentLink2URL: http://www.yageo.com/documents/recent/PYu-RC0603_51_RoHS_L_4.pdf; ComponentLink2Description: http://www.yageo.com/documents/recent/PYu-RC0603_51_RoHS_L_4.pdf
footprint RESC1608N (Chip Resistor, Body 1.6x0.8mm, IPC Medium Density)
pins: 1, 2

## RES_44K2_0805_1%
designator R?, comment value 44K2  Tolerance: ±1%  (hidden comment: Thick Film)
Resistor SMD chip 44.2k Ohm 0.125W 1% 0805; Manufacturer 1: Vishay/Dale; Manufacturer Part Number 1: CRCW080544K2FKEA; Ratings: 1/8W; Package / Case: 0805 (2012 metric); Supplier 1: Digi-Key; Supplier Part Number 1: 541-44.2KCCT-ND
footprint RESC2012N (Chip Resistor, Body 2.0x1.2mm, 0805, IPC Medium Density)
pins: 1, 2

## RES_47R_1206_5%
designator R?, comment value 47R  (hidden comment: Thick Film)
Resistor SMD chip 47 Ohm 0.25W 5% 1206; Manufacturer 1: Yageo; Manufacturer Part Number 1: RC1206JR-0747RL; Ratings: 1/4W; Voltage Rating: 200 Volts; Package / Case: 1206 (3216 metric); Tolerance: ±5%; Supplier 1: Mouser; Supplier Part Number 1: 603-RC1206JR-0747RL; ComponentLink1URL: http://www.yageo.com/documents/recent/PYu-RC1206_51_RoHS_L_4.pdf; ComponentLink1Description: http://www.yageo.com/documents/recent/PYu-RC1206_51_RoHS_L_4.pdf
footprint RESC3216N (Chip Resistor, Body 3.2x1.6mm, 1206, IPC Medium Density)
pins: 1, 2

## RES_51K_0603_1%
designator R?, comment value 51K  Tolerance: ±1%  (hidden comment: Thick Film)
Resistor SMD chip 51k Ohm 0.1W 1% 0603; Manufacturer 1: Yageo; Manufacturer Part Number 1: RC0603FR-0751KL; Ratings: 1/10W; Package / Case: 0603 (1608 Metric); Supplier 1: Digi-Key; Supplier Part Number 1: 311-51.0KHRCT-ND
footprint RESC1608N (Chip Resistor, Body 1.6x0.8mm, 0603, IPC Medium Density)
pins: 1, 2

## RES_51K_0805_1%
designator R?, comment value 51K  Tolerance: ±1%  (hidden comment: Thick Film)
Resistor SMD chip 51k Ohm 0.125W 1% 0805; Manufacturer 1: Yageo; Manufacturer Part Number 1: RC0805FR-0751KL; Ratings: 1/8W; Package / Case: 0805 (2012 Metric); Supplier 1: Digi-Key; Supplier Part Number 1: 311-51.0KCRCT-ND
footprint RESC2012N (Chip Resistor, Body 2.0x1.2mm, 0805, IPC Medium Density)
pins: 1, 2

## RES_51K_Axial_0.25W_5%
designator R?, comment value 51K  (hidden comment: Carbon Film)
Resistor THD Axial 51k Ohm 0.25W 5% Carbon Film; Manufacturer 1: Yageo; Manufacturer Part Number 1: CFR-25JB-51K; Ratings: 1/4W; Tolerance: ±5%; Package / Case: Axial; Supplier 1: Digi-Key; Supplier Part Number 1: 51KQBK-ND
footprint RESTH_AXIAL-0.4
pins: 1, 2

## RES_51R_0603_1%
designator R?, comment value 51R  Tolerance: ±1%  (hidden comment: Thick Film)
Resistor SMD chip 51 Ohm 0.1W 1% 0603; Manufacturer 1: Yageo; Manufacturer Part Number 1: RC0603FR-0751RL; Ratings: 1/10 W; Package / Case: 0603 (1608 metric); Material: Thick Film; Supplier 1: Digi-Key; Supplier Part Number 1: 311-51.0HRCT-ND
footprint RESC1608N (Chip Resistor, Body 1.6x0.8mm, IPC Medium Density)
pins: 1, 2

## RES_51R_1206_1%
designator R?, comment value 51R  Tolerance: ±1%  (hidden comment: Thick Film)
Resistor SMD chip 51 Ohm 0.25W 1% 1206; Manufacturer 1: Vishay/Dale; Manufacturer Part Number 1: CRCW120651R0JNEA; Ratings: 1/4W; Package / Case: 1206 (3216 metric); Supplier 1: Digi-Key; Supplier Part Number 1: 541-51ECT-ND
footprint RESC3216N (Chip Resistor, Body 3.2x1.6mm, 1206, IPC Medium Density)
pins: 1, 2

## RES_52K3_0603_1%
designator R?, comment value 52K3  Tolerance: ±1%  (hidden comment: Thick Film)
Resistor SMD chip 52.3K Ohm 0.1W 1% 0603; Manufacturer 1: Yageo; Manufacturer Part Number 1: RC0603FR-0752K3L; Ratings: 1/10W; Parameter Name: ±100ppm/°C; Package / Case: 0603 (1608 Metric); ComponentLink1URL: http://www.yageo.com/documents/recent/PYu-RC0603_51_RoHS_L_4.pdf; ComponentLink1Description: http://www.yageo.com/documents/recent/PYu-RC0603_51_RoHS_L_4.pdf; Supplier 1: Digi-Key; Supplier Part Number 1: 311-52.3KHRCT-ND
footprint RESC1608N (Chip Resistor, Body 1.6x0.8mm, 0603, IPC Medium Density)
pins: 1, 2

## RES_63K4_0603_1%
designator R?, comment value 63K4  Tolerance: ±1%  (hidden comment: Thick Film)
Resistor SMD chip 63.4K Ohm 0.1W 1% 0603; Manufacturer 1: Yageo; Manufacturer Part Number 1: RC0603FR-0763K4L; Ratings: 1/10W; Package / Case: 0603 (1608 Metric); Supplier 1: Digi-Key; Supplier Part Number 1: 311-63.4KHRCT-ND; ComponentLink1URL: http://www.yageo.com/documents/recent/PYu-RC0603_51_RoHS_L_4.pdf; ComponentLink1Description: http://www.yageo.com/documents/recent/PYu-RC0603_51_RoHS_L_4.pdf
footprint RESC1608N (Chip Resistor, Body 1.6x0.8mm, 0603, IPC Medium Density)
pins: 1, 2

## RES_68R_0603_5%
designator R?, comment value 68R  (hidden comment: Thick Film)
Resistor SMD chip 68 Ohm 0.1W 5% 0603; Manufacturer 1: Yageo; Manufacturer Part Number 1: RC0603JR-0768RL; Ratings: 1/10 W; Package / Case: 0603 (1608 metric); Tolerance: ±5%; Material: Thick Film; Supplier 1: Digi-Key; Supplier Part Number 1: 311-68GRCT-ND
footprint RESC1608N (Chip Resistor, Body 1.6x0.8mm, IPC Medium Density)
pins: 1, 2

## RES_86R6_0805_1%
designator R?, comment value 86R6  Tolerance: ±1%  (hidden comment: Thick Film)
Resistor SMD chip 86.6 Ohm 0.125W 1% 0805; Manufacturer: Vishay/Dale; Manufacturer Part Number: CRCW080586R6FKEA; Ratings: 1/8W; Package / Case: 0805 (2012 metric); Supplier 1: Digi-Key; Supplier Part Number 1: 541-86.6CCT-ND
footprint RESC2012N (Chip Resistor, Body 2.0x1.2mm, IPC Medium Density)
pins: 1, 2

## RES_91R_1206_5%
designator R?, comment value 91R  (hidden comment: Thin Film)
Resistor SMD chip 91 Ohm 0.25W 5% 1206; Manufacturer 1: Yageo; Manufacturer Part Number 1: RC1206JR-0791RL; Ratings: 1/4 W; Package / Case: 1206 (3216 Metric); Tolerance: ±5%; Material: Thin Film; Supplier 1: Digi-Key; Supplier Part Number 1: 311-91ERCT-ND; ComponentLink1URL: http://www.yageo.com/documents/recent/PYu-RC1206_51_RoHS_L_4.pdf; ComponentLink1Description: http://www.yageo.com/documents/recent/PYu-RC1206_51_RoHS_L_4.pdf
footprint RESC3216N (Chip Resistor, Body 3.2x1.6mm, 1206, IPC Medium Density)
pins: 1, 2

## RES_100K_0603_1%
designator R?, comment value 100K  Tolerance: ±1%  (hidden comment: Thick Film)
Resistor SMD chip 100k Ohm 0.1W 1% 0603; Manufacturer 1: Vishay/Dale; Manufacturer Part Number 1: CRCW0603100KFKEA; Ratings: 1/10W; Package / Case: 0603 (2012 metric); Supplier 1: Digi-Key; Supplier Part Number 1: 541-100KHCT-ND
footprint RESC1608N (Chip Resistor, Body 1.6x0.8mm, 0603, IPC Medium Density)
pins: 1, 2

## RES_100K_0805_1%
designator R?, comment value 100K  Tolerance: ±1%  (hidden comment: Thick Film)
Resistor SMD chip 100k Ohm 0.125W 1% 0805; Manufacturer 1: Vishay/Dale; Manufacturer Part Number 1: CRCW0805100KFKEA; Ratings: 1/8W; Package / Case: 0805 (2012 metric); Supplier 1: Digi-Key; Supplier Part Number 1: 541-100KCCT-ND
footprint RESC2012N (Chip Resistor, Body 2.0x1.2mm, IPC Medium Density)
pins: 1, 2

## RES_100R_0603_1%
designator R?, comment value 100R  Tolerance: ±1%  (hidden comment: Thick Film)
Resistor SMD chip 100 Ohm 0.1W 1% 0603; Manufacturer 1: Yageo; Manufacturer Part Number 1: RC0603FR-07100RL; Ratings: 1/10 W; Package / Case: 0603 (1608 Metric); Material: Thick Film; Supplier 1: Digi-Key; Supplier Part Number 1: 311-100HRCT-ND; Supplier 2: Digi-Key; Supplier Part Number 2: P100HTR-ND; Manufacturer 2: Panasonic - ECG; Manufacturer Part Number 2: ERJ-3EKF1000V; ComponentLink1URL: http://industrial.panasonic.com/www-cgi/jvcr13pz.cgi?E+PZ+3+AOA0002+ERJ3EKF1000V+7+WW; ComponentLink1Description: http://industrial.panasonic.com/www-cgi/jvcr13pz.cgi?E+PZ+3+AOA0002+ERJ3EKF1000V+7+WW
footprint RESC1608N (Chip Resistor, Body 1.6x0.8mm, 0603, IPC Medium Density)
pins: 1, 2

## RES_100R_0805_1%
designator R?, comment value 100R  Tolerance: ±1%  (hidden comment: Thick Film)
Resistor SMD chip 100 Ohm 0.125W 1% 0805; Manufacturer 1: Yageo; Manufacturer Part Number 1: RC0805FR-07100RL; Ratings: 1/8 W; Package / Case: 0805 (2012 Metric); Material: Thick Film; Supplier 1: Digi-Key; Supplier Part Number 1: 311-100CRCT-ND
footprint RESC2012N (Chip Resistor, Body 2.0x1.2mm, 0805, IPC Medium Density)
pins: 1, 2

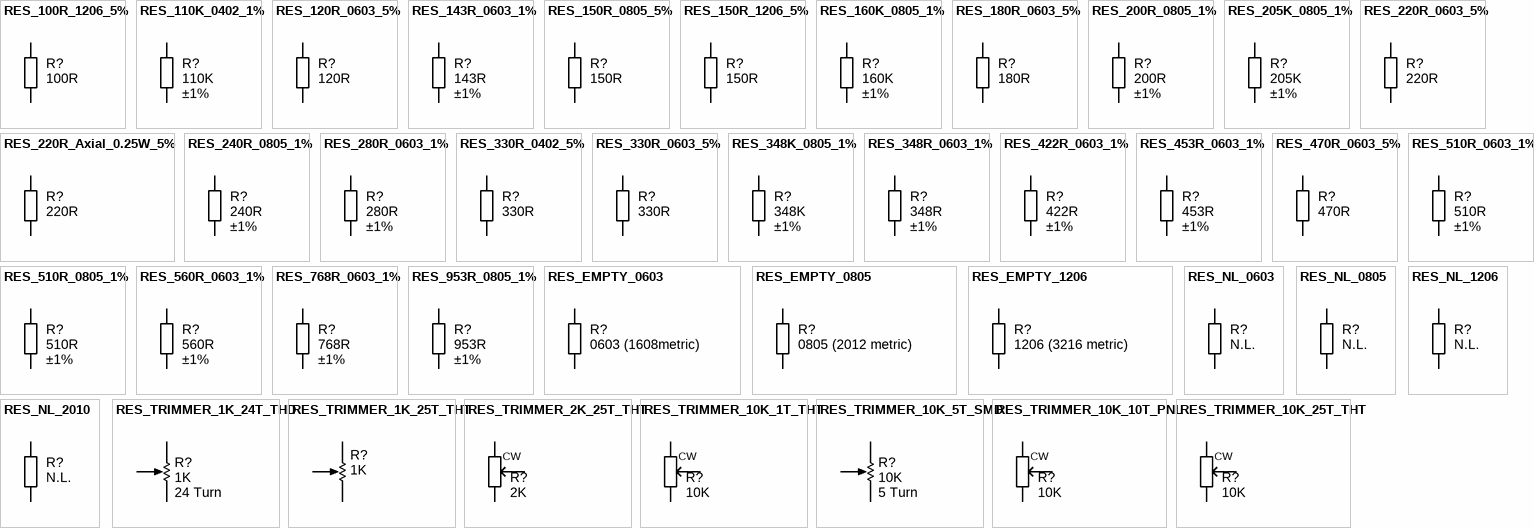
[diagram p2: symbols RES_100R_1206_5% to RES_TRIMMER_10K_25T_THT]

## RES_100R_1206_5%
designator R?, comment value 100R  (hidden comment: Thick Film)
Resistor SMD chip 100 Ohm 0.25W 5% 1206; Manufacturer 1: Vishay/Dale; Manufacturer Part Number 1: CRCW1206100RJNEA; Package / Case: 1206 (3216 metric); Ratings: 0.25 W; Tolerance: ±5%; Material: Thick Film; Supplier 1: Digi-Key; Supplier Part Number 1: 541-100ECT-ND
footprint RESC3216N (Chip Resistor, Body 3.2x1.6mm, 1206, IPC Medium Density)
pins: 1, 2

## RES_110K_0402_1%
designator R?, comment value 110K  Tolerance: ±1%  (hidden comment: Thick Film)
Resistor SMD chip 110k Ohm 0.063W 1% 0402; Manufacturer 1: Vishay Dale; Manufacturer Part Number 1: CRCW0402110KFKED; Ratings: 1/16 W; Package / Case: 0402 (1005 Metric); Manufacturer 2: Yageo; Manufacturer Part Number 2: RC0402FR-07110KL; Supplier 1: Digi-Key; Supplier Part Number 1: 541-110KLCT-ND; ComponentLink1URL: http://www.vishay.com/doc?20035; ComponentLink1Description: http://www.vishay.com/doc?20035; ComponentLink2URL: http://www.yageo.com/documents/recent/PYu-RC0402_51_RoHS_L_6.pdf; ComponentLink2Description: http://www.yageo.com/documents/recent/PYu-RC0402_51_RoHS_L_6.pdf; Supplier 2: Digi-Key; Supplier Part Number 2: 311-110KJRCT-ND
footprint RESC1005N (Chip Resistor, Body 1.0x0.5mm, EIA 0402, IPC Medium Density)
pins: 1, 2

## RES_120R_0603_5%
designator R?, comment value 120R  (hidden comment: Thick Film)
Resistor SMD chip 120 Ohm 0.1W 5% 0603; Manufacturer 1: Yageo; Manufacturer Part Number 1: RC0603JR-07120RL; Ratings: 1/10 W; Package / Case: 0603 (1608 metric); Tolerance: ±5%; Material: Thick Film; Supplier 1: Digi-Key; Supplier Part Number 1: 311-120GRCT-ND
footprint RESC1608N (Chip Resistor, Body 1.6x0.8mm, IPC Medium Density)
pins: 1, 2

## RES_143R_0603_1%
designator R?, comment value 143R  Tolerance: ±1%  (hidden comment: Thin Film)
Resistor SMD chip 143 Ohm 0.1W 1% 0603; Manufacturer 1: Yageo; Manufacturer Part Number 1: RC0603FR-07143RL; Ratings: 1/10 W; Package / Case: 0603 (1608 metric); Material: Thin Film; Supplier 1: Digi-Key; Supplier Part Number 1: 311-143HRCT-ND
footprint RESC1608N (Chip Resistor, Body 1.6x0.8mm, 0603, IPC Medium Density)
pins: 1, 2

## RES_150R_0805_5%
designator R?, comment value 150R  (hidden comment: Thick Film)
Resistor SMD chip 150 Ohm 0.125W 5% 0805; Manufacturer 1: Vishay/Dale; Manufacturer Part Number 1: CRCW0805150RJNEA; Ratings: 1/8W; Tolerance: ±5%; Package / Case: 0805 (2012 metric); Supplier 1: Digi-Key; Supplier Part Number 1: 541-150ACT-ND
footprint RESC2012N (Chip Resistor, Body 2.0x1.2mm, IPC Medium Density)
pins: 1, 2

## RES_150R_1206_5%
designator R?, comment value 150R  (hidden comment: Thin Film)
Resistor SMD chip 150 Ohm 0.25W 5% 1206; Manufacturer 1: Yageo; Manufacturer Part Number 1: RC1206JR-07150RL; Ratings: 1/4 W; Package / Case: 1206 (3216 Metric); Tolerance: ±5%; Material: Thin Film; Supplier 1: Digi-Key; Supplier Part Number 1: 311-150ERCT-ND; ComponentLink1URL: http://www.yageo.com/documents/recent/PYu-RC1206_51_RoHS_L_4.pdf; ComponentLink1Description: http://www.yageo.com/documents/recent/PYu-RC1206_51_RoHS_L_4.pdf
footprint RESC3216N (Chip Resistor, Body 3.2x1.6mm, 1206, IPC Medium Density)
pins: 1, 2

## RES_160K_0805_1%
designator R?, comment value 160K  Tolerance: ±1%  (hidden comment: Thick Film)
Resistor SMD chip 160k Ohm 0.125W 1% 0805; Manufacturer 1: Vishay/Dale; Manufacturer Part Number 1: CRCW0805160KFKEA; Ratings: 1/8W; Package / Case: 0805 (2012 metric); Supplier 1: Digi-Key; Supplier Part Number 1: 541-160KCCT-ND
footprint RESC2012N (Chip Resistor, Body 2.0x1.2mm, 0805, IPC Medium Density)
pins: 1, 2

## RES_180R_0603_5%
designator R?, comment value 180R  (hidden comment: Thick Film)
Resistor SMD chip 180 Ohm 0.1W 5% 0603; Manufacturer 1: Yageo; Manufacturer Part Number 1: RC0603JR-07180RL; Ratings: 1/10 W; Package / Case: 0603 (1608 metric); Tolerance: ±5%; Material: Thick Film; Supplier 1: Digi-Key; Supplier Part Number 1: 311-180GRCT-ND
footprint RESC1608N (Chip Resistor, Body 1.6x0.8mm, IPC Medium Density)
pins: 1, 2

## RES_200R_0805_1%
designator R?, comment value 200R  Tolerance: ±1%  (hidden comment: Thick Film)
Resistor SMD chip 200 Ohm 0.125W 1% 0805; Manufacturer 1: Vishay/Dale; Manufacturer Part Number 1: CRCW0805200RFKEA; Ratings: 1/8W; Package / Case: 0805 (2012 metric); Supplier 1: Digi-Key; Supplier Part Number 1: 541-200CCT-ND
footprint RESC2012N (Chip Resistor, Body 2.0x1.2mm, 0805, IPC Medium Density)
pins: 1, 2

## RES_205K_0805_1%
designator R?, comment value 205K  Tolerance: ±1%  (hidden comment: Thick Film)
Resistor SMD chip 205k Ohm 0.125W 1% 0805; Manufacturer 1: Vishay/Dale; Manufacturer Part Number 1: CRCW0805205KFKEA; Ratings: 1/8W; Package / Case: 0805 (2012 metric); Supplier 1: Digi-Key; Supplier Part Number 1: 541-205KCCT-ND
footprint RESC2012N (Chip Resistor, Body 2.0x1.2mm, 0805, IPC Medium Density)
pins: 1, 2

## RES_220R_0603_5%
designator R?, comment value 220R  (hidden comment: Thick Film)
Resistor SMD chip 220 Ohm 0.1W 5% 0603; Manufacturer 1: Yageo; Manufacturer Part Number 1: RC0603JR-07220RL; Ratings: 1/10 W; Manufacturer 2: Royal Ohm; Manufacturer Part Number 2: 0603WAJ0221; Package / Case: 0603 (1608 metric); Tolerance: ±5%; Material: Thick Film; Supplier 1: Digi-Key; Supplier Part Number 1: 311-220GRCT-ND
footprint RESC1608N (Chip Resistor, Body 1.6x0.8mm, IPC Medium Density)
pins: 1, 2

## RES_220R_Axial_0.25W_5%
designator R?, comment value 220R  (hidden comment: Carbon Film)
Resistor THD Axial 220 Ohm 0.25W 5% Carbon Film; Manufacturer 1: Yageo; Manufacturer Part Number 1: CFR-25JB-220R; Ratings: 1/4W; Tolerance: ±5%; Package / Case: Axial; Supplier 1: Digi-Key; Supplier Part Number 1: 220QBK-ND
footprint RESTH_AXIAL-0.4
pins: 1, 2

## RES_240R_0805_1%
designator R?, comment value 240R  Tolerance: ±1%  (hidden comment: Thick Film)
Resistor SMD chip 240 Ohm 0.125W 1% 0805; Manufacturer 1: Vishay/Dale; Manufacturer Part Number 1: CRCW0805240RFKEA; Ratings: 1/8W; Supplier 1: Digi-Key; Supplier Part Number 1: 541-240CCT-ND; Package / Case: 0805 (2012 metric); Material: Thick Film
footprint RESC2012N (Chip Resistor, Body 2.0x1.2mm, IPC Medium Density)
pins: 1, 2

## RES_280R_0603_1%
designator R?, comment Tolerance: ±1%  (hidden comment: 280R)
Resistor SMD chip 280 Ohm 0.1W 1% 0603; Manufacturer 1: Yageo; Manufacturer Part Number 1: RC0603FR-07280RL; Ratings: 1/10W; Package / Case: 0603 (1608 Metric); Supplier 1: Digi-Key; Supplier Part Number 1: 311-280HRCT-ND; Value: 280R
footprint RESC1608N (Chip Resistor, Body 1.6x0.8mm, 0603, IPC Medium Density)
pins: 1, 2

## RES_330R_0402_5%
designator R?, comment value 330R  (hidden comment: Thick Film)
Resistor SMD chip 330 Ohm 0.063W 5% 0402; Manufacturer 1: Yageo; Manufacturer Part Number 1: RC0402JR-07330RL; Ratings: 1/16 W; Package / Case: 0402 (1005 Metric); Tolerance: ±5%; Supplier 1: Digi-Key; Supplier Part Number 1: 311-330JRCT-ND; ComponentLink1URL: http://www.yageo.com/documents/recent/PYu-RC0402_51_RoHS_L_6.pdf; ComponentLink1Description: http://www.yageo.com/documents/recent/PYu-RC0402_51_RoHS_L_6.pdf
footprint RESC1005N (Chip Resistor, Body 1.0x0.5mm, EIA 0402, IPC Medium Density)
pins: 1, 2

## RES_330R_0603_5%
designator R?, comment value 330R  (hidden comment: Thick Film)
Resistor SMD chip 330 Ohm 0.1W 5% 0603; Manufacturer 1: Vishay Dale; Manufacturer Part Number 1: CRCW0603330RJNEA; Ratings: 1/10 W; Manufacturer 2: Yageo; Manufacturer Part Number 2: RC0603JR-07330RL; Package / Case: 0603 (1608 metric); Tolerance: ±5%; Material: Thick Film; Supplier 1: Digi-Key; Supplier Part Number 1: 541-330GCT-ND; ComponentLink1URL: http://www.vishay.com/doc?20035; ComponentLink1Description: http://www.vishay.com/doc?20035; Supplier 2: Digi-Key; Supplier Part Number 2: 311-330GRCT-ND; ComponentLink2URL: http://www.yageo.com/documents/recent/PYu-RC0603_51_RoHS_L_4.pdf; ComponentLink2Description: http://www.yageo.com/documents/recent/PYu-RC0603_51_RoHS_L_4.pdf
footprint RESC1608N (Chip Resistor, Body 1.6x0.8mm, IPC Medium Density)
pins: 1, 2

## RES_348K_0805_1%
designator R?, comment value 348K  Tolerance: ±1%  (hidden comment: Thick Film)
Resistor SMD chip 348k Ohm 0.125W 1% 0805; Manufacturer 1: Vishay/Dale; Manufacturer Part Number 1: CRCW0805348KFKEA; Ratings: 1/8W; Package / Case: 0805 (2012 metric); Supplier 1: Digi-Key; Supplier Part Number 1: 541-348KCCT-ND
footprint RESC2012N (Chip Resistor, Body 2.0x1.2mm, IPC Medium Density)
pins: 1, 2

## RES_348R_0603_1%
designator R?, comment value 348R  Tolerance: ±1%  (hidden comment: Thin Film)
Resistor SMD chip 348 Ohm 0.1W 1% 0603; Manufacturer 1: Yageo; Manufacturer Part Number 1: RC0603FR-07348RL; Ratings: 1/10 W; Package / Case: 0603 (1608 metric); Material: Thin Film; Supplier 1: Digi-Key; Supplier Part Number 1: 311-348HRCT-ND
footprint RESC1608N (Chip Resistor, Body 1.6x0.8mm, 0603, IPC Medium Density)
pins: 1, 2

## RES_422R_0603_1%
designator R?, comment value 422R  Tolerance: ±1%  (hidden comment: Thick Film)
Resistor SMD chip 422 Ohm 0.1W 1% 0603; Manufacturer 1: Yageo; Manufacturer Part Number 1: RC0603FR-07422RL; Ratings: 1/10W; Package / Case: 0603 (1608 Metric); Supplier 1: Digi-Key; Supplier Part Number 1: 311-422HRCT-ND
footprint RESC1608N (Chip Resistor, Body 1.6x0.8mm, 0603, IPC Medium Density)
pins: 1, 2

## RES_453R_0603_1%
designator R?, comment value 453R  Tolerance: ±1%  (hidden comment: Thin Film)
Resistor SMD chip 453 Ohm 0.1W 1% 0603; Manufacturer 1: Yageo; Manufacturer Part Number 1: RC0603FR-07453RL; Ratings: 1/10 W; Package / Case: 0603 (1608 metric); Material: Thin Film; Supplier 1: Digi-Key; Supplier Part Number 1: 311-453HRCT-ND
footprint RESC1608N (Chip Resistor, Body 1.6x0.8mm, 0603, IPC Medium Density)
pins: 1, 2

## RES_470R_0603_5%
designator R?, comment value 470R  (hidden comment: Thick Film)
Resistor SMD chip 470 Ohm 0.1W 5% 0603; Manufacturer 1: Vishay/Dale; Manufacturer Part Number 1: CRCW0603470RJNEA; Ratings: 1/10 W; Package / Case: 0603 (1608 metric); Tolerance: ±5%; Material: Thick Film; Supplier 1: Digi-Key; Supplier Part Number 1: 541-470GCT-ND
footprint RESC1608N (Chip Resistor, Body 1.6x0.8mm, IPC Medium Density)
pins: 1, 2

## RES_510R_0603_1%
designator R?, comment value 510R  Tolerance: ±1%  (hidden comment: Thick Film)
Resistor SMD chip 510 Ohm 0.1W 1% 0603; Manufacturer 1: Yageo; Manufacturer Part Number 1: RC0603FR-07510RL; Ratings: 1/10 W; Package / Case: 0603 (1608 Metric); Material: Thick Film; Supplier 1: Digi-Key; Supplier Part Number 1: 311-510HRCT-ND
footprint RESC1608N (Chip Resistor, Body 1.6x0.8mm, 0603, IPC Medium Density)
pins: 1, 2

## RES_510R_0805_1%
designator R?, comment value 510R  Tolerance: ±1%  (hidden comment: Thick Film)
Resistor SMD chip 510 Ohm 0.125W 1% 0805; Manufacturer 1: Yageo; Manufacturer Part Number 1: RC0805FR-07510RL; Ratings: 1/8 W; Package / Case: 0805 (2012 Metric); Material: Thick Film; Supplier 1: Digi-Key; Supplier Part Number 1: 311-510CRCT-ND
footprint RESC2012N (Chip Resistor, Body 2.0x1.2mm, 0805, IPC Medium Density)
pins: 1, 2